# Altium schematic symbol library PowerManagement.SchLib: 18 symbols
Pins are listed as number, name and electrical type; pins without a type are passive.

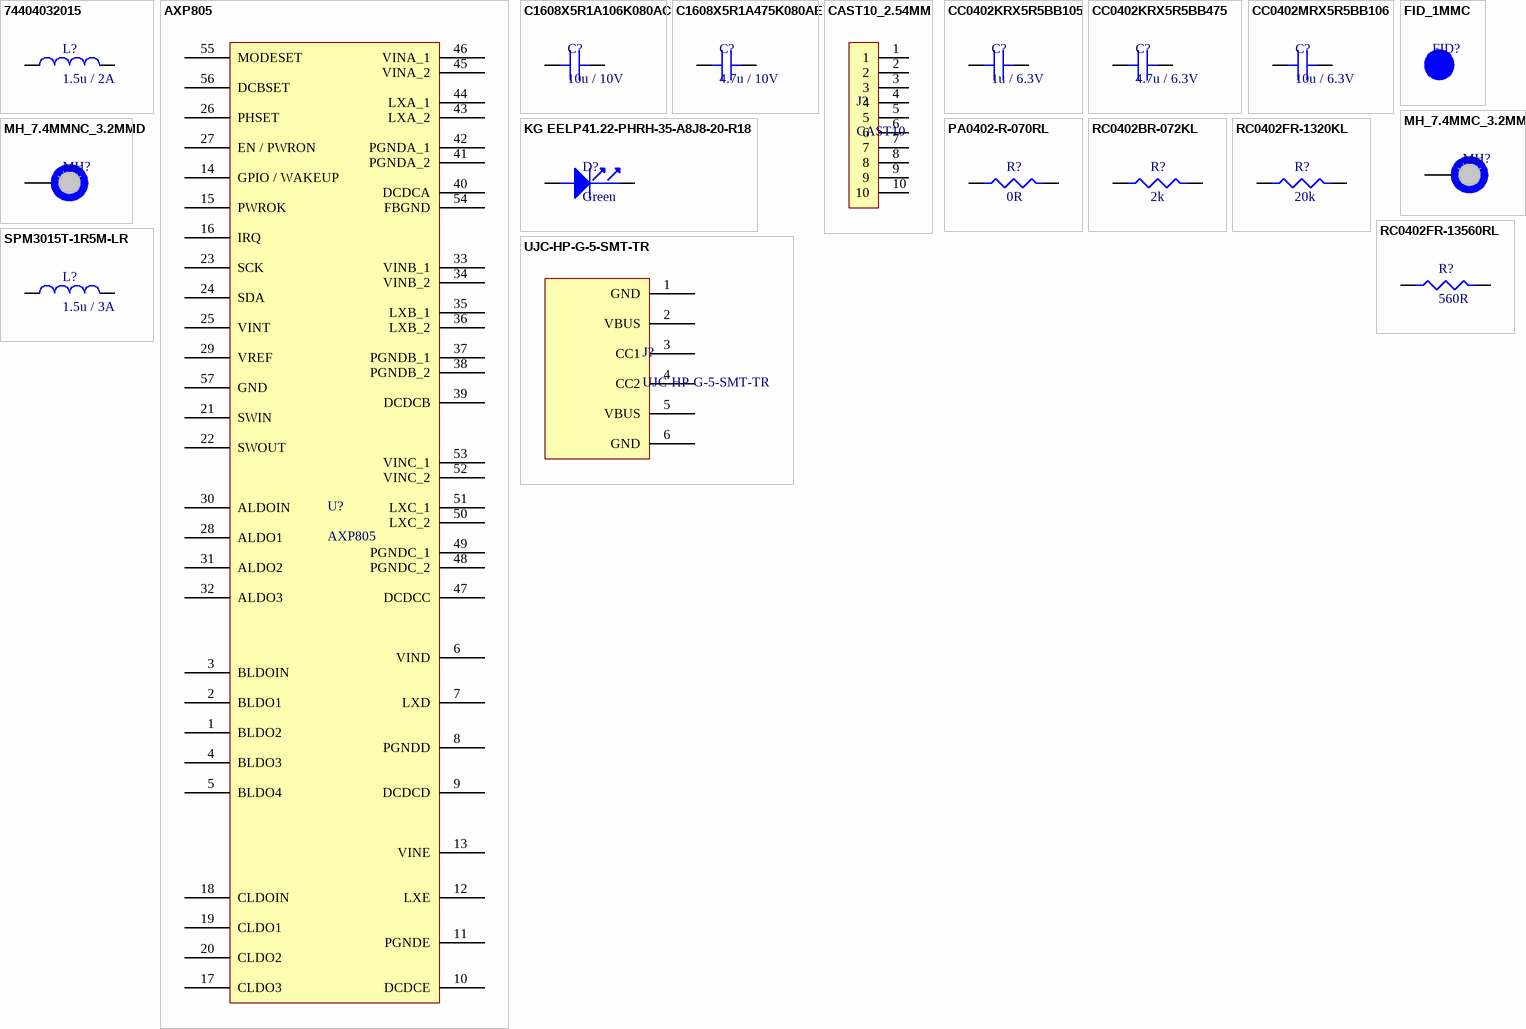
[diagram p0: symbols 74404032015 to UJC-HP-G-5-SMT-TR]

## 74404032015
designator L?, comment 1.5u / 2A
Inductor, 1.5Uh, Semishielded, 2A Rohs Compliant: Yes |Wurth Elektronik 74404032015; Manufacturer: Wurth Electronics; Supplier 1: Digikey; Manufacturer Part Number: 74404032015; RoHS: Yes; Category: Fixed Inductors; Stock 1: 53971; Pricing 1: 1=1.04, 50=0.8812, 250=0.81632, 500=0.7317 (USD); ComponentLink1URL: http://www.mouser.com/ds/2/445/74404032015-321297.pdf?src-supplier=Mouser; ComponentLink1Description: http://www.mouser.com/ds/2/445/74404032015-321297.pdf?src-supplier=Mouser; ComponentLink2URL: http://www.farnell.com/datasheets/1832868.pdf?src-supplier=Farnell; ComponentLink2Description: http://www.farnell.com/datasheets/1832868.pdf?src-supplier=Farnell; ComponentLink3URL: https://katalog.we-online.de/pbs/datasheet/74404032015.pdf?src-supplier=Digikey; ComponentLink3Description: https://katalog.we-online.de/pbs/datasheet/74404032015.pdf?src-supplier=Digikey; ComponentLink4URL: https://datasheet.octopart.com/74404032015-W%C3%BCrth-Elektronik-datasheet-27616795.pdf?src-supplier=Farnell; ComponentLink4Description: https://datasheet.octopart.com/74404032015-W%C3%BCrth-Elektronik-datasheet-27616795.pdf?src-supplier=Farnell; ComponentLink5URL: http://www.farnell.com/datasheets/1832868.pdf?src-supplier=Element14; ComponentLink5Description: http://www.farnell.com/datasheets/1832868.pdf?src-supplier=Element14; Supplier Part Number 1: 732-5492-1-ND
footprint 74404032015
pins: 1, 2

## AXP805
designator U?
PMIC for Multi-Core High-Performance System; Manufacturer: X-Powers; Max Junction Temperature (Tj): 125 °C; Max Supply Voltage: 5.5 V; Min Supply Voltage: 3 V; Number of Outputs: 9; Ambient Temperature Range High: 85 °C; Max Operating Temperature: 125 °C; Height: 800 µm; Manufacturer Part Number: AXP805; Category: Power Management (PMIC); RoHS: *; ComponentLink1Description: datasheet; ComponentLink1URL: https://linux-sunxi.org/images/b/bc/AXP805_Datasheet_V1.0_en.pdf; Supplier 1: AliExpress; Supplier Part Number 1: 1005008574347512; Stock 1: *; Pricing 1: *; ComponentLink2Description: Supplier Link 1; ComponentLink2URL: https://aliexpress.ru/item/1005008574347512.html?sku_id=12000045786397552; Supplier Note 1: For prototype
footprint QFN7x7MM
pins: 1 BLDO2, 2 BLDO1, 3 BLDOIN, 4 BLDO3, 5 BLDO4, 6 VIND, 7 LXD, 8 PGNDD, 9 DCDCD, 10 DCDCE, 11 PGNDE, 12 LXE, 13 VINE, 14 GPIO / WAKEUP, 15 PWROK, 16 IRQ, 17 CLDO3, 18 CLDOIN, 19 CLDO1, 20 CLDO2, 21 SWIN, 22 SWOUT, 23 SCK, 24 SDA, 25 VINT, 26 PHSET, 27 EN / PWRON, 28 ALDO1, 29 VREF, 30 ALDOIN, 31 ALDO2, 32 ALDO3, 33 VINB_1, 34 VINB_2, 35 LXB_1, 36 LXB_2, 37 PGNDB_1, 38 PGNDB_2, 39 DCDCB, 40 DCDCA, 41 PGNDA_2, 42 PGNDA_1, 43 LXA_2, 44 LXA_1, 45 VINA_2, 46 VINA_1, 47 DCDCC, 48 PGNDC_2, 49 PGNDC_1, 50 LXC_2, 51 LXC_1, 52 VINC_2, 53 VINC_1, 54 FBGND, 55 MODESET, 56 DCBSET, 57 GND

## C1608X5R1A106K080AC
designator C?, comment 10u / 10V
C Series 0603 10 uF 10 V ±10 % Tolerance X5R SMT Multilayer Ceramic Capacitor; Manufacturer: TDK; Manufacturer Part Number: C1608X5R1A106K080AC; Material: 4241ConductorMaterial; Capacitance: 10uF; Tolerance: 10%; Supplier 1: Digikey; RoHS: Yes; Category: Ceramic Capacitors; Stock 1: 79274; Pricing 1: 1=0.25, 10=0.145, 100=0.0918, 1000=0.06453 (USD); Mount: Surface Mount; Case/Package: 0603; Number of Pins: 2NUMBER; Case Code (Imperial): 0603; Case Code (Metric): 1608; Weight: 7.1E-05oz; Dielectric Material: 4241ConductorMaterial; Min Operating Temperature: -55°C; Max Operating Temperature: 85°C; Dielectric: X5R; Voltage Rating: 10V; Voltage Rating (DC): 10V; Packaging: Tape and Reel; Package Quantity: 1; Termination: SMD/SMT; Voltage: 10V; Series: C; Construction: Flat; Length: 1.6mm; Width: 0.031inch; Height: 0.8mm; Thickness: 0.035inch; Depth: 0.8mm; Reach SVHC Compliant: No; Lead Free: Lead Free; RoHS Compliant: Yes; ComponentLink1URL: https://datasheet.ciiva.com/22694/1796654-22694118.pdf?src-supplier=Element14; ComponentLink1Description: https://datasheet.ciiva.com/22694/1796654-22694118.pdf?src-supplier=Element14; ComponentLink2URL: https://datasheet.ciiva.com/6288/tdkmlcccaprange-6288222.pdf?src-supplier=Digikey; ComponentLink2Description: https://datasheet.ciiva.com/6288/tdkmlcccaprange-6288222.pdf?src-supplier=Digikey; ComponentLink3URL: https://datasheet.ciiva.com/6288/tdkmlcccaprange-6288220.pdf?src-supplier=Digikey; ComponentLink3Description: https://datasheet.ciiva.com/6288/tdkmlcccaprange-6288220.pdf?src-supplier=Digikey; ComponentLink4URL: https://datasheet.ciiva.com/16449/mlcc-commercial-general-en-16449573.pdf?src-supplier=Future+Electronics; ComponentLink4Description: https://datasheet.ciiva.com/16449/mlcc-commercial-general-en-16449573.pdf?src-supplier=Future+Electronics; ComponentLink5URL: https://datasheet.ciiva.com/48671/e412-c-48671301.pdf?src-supplier=Avnet; ComponentLink5Description: https://datasheet.ciiva.com/48671/e412-c-48671301.pdf?src-supplier=Avnet; ComponentLink6URL: https://datasheet.ciiva.com/23802/1796654-23802763.pdf?src-supplier=Newark; ComponentLink6Description: https://datasheet.ciiva.com/23802/1796654-23802763.pdf?src-supplier=Newark; ComponentLink7URL: https://datasheet.ciiva.com/7975/1796654-7975065.pdf?src-supplier=Element14; ComponentLink7Description: https://datasheet.ciiva.com/7975/1796654-7975065.pdf?src-supplier=Element14; ComponentLink8URL: https://datasheet.ciiva.com/28577/1744655-28577071.pdf?src-supplier=Element14; ComponentLink8Description: https://datasheet.ciiva.com/28577/1744655-28577071.pdf?src-supplier=Element14; ComponentLink9URL: https://datasheet.ciiva.com/6288/tdkmlcccaprange-6288223.pdf?src-supplier=Digikey; ComponentLink9Description: https://datasheet.ciiva.com/6288/tdkmlcccaprange-6288223.pdf?src-supplier=Digikey; ComponentLink10URL: https://datasheet.ciiva.com/28577/mlcc-commercial-general-en-28577085.pdf?src-supplier=Element14; ComponentLink10Description: https://datasheet.ciiva.com/28577/mlcc-commercial-general-en-28577085.pdf?src-supplier=Element14; Supplier Part Number 1: 445-C1608X5R1A106K080ACCT-ND
footprint C0603
pins: 1, 2

## C1608X5R1A475K080AE
designator C?, comment 4.7u / 10V
C Series 0603 4.7 uF 10 V ±10 %Tolerance X5R SMT Multilayer Ceramic Capacitor; Manufacturer: TDK; Manufacturer Part Number: C1608X5R1A475K080AE; Supplier 1: Digikey; RoHS: Yes; Category: Ceramic Capacitors; Stock 1: 16947; Pricing 1: 1=0.26, 10=0.15, 100=0.0952, 1000=0.06716 (USD); ComponentLink1URL: https://product.tdk.com/info/en/catalog/datasheets/mlcc_commercial_soft_en.pdf?src-supplier=Digikey; ComponentLink1Description: https://product.tdk.com/info/en/catalog/datasheets/mlcc_commercial_soft_en.pdf?src-supplier=Digikey; ComponentLink2URL: https://product.tdk.com/info/en/catalog/datasheets/mlcc_commercial_soft_en.pdf?ref_disty=digikey&src-supplier=Digikey; ComponentLink2Description: https://product.tdk.com/info/en/catalog/datasheets/mlcc_commercial_soft_en.pdf?ref_disty=digikey&src-supplier=Digikey; ComponentLink3URL: https://product.tdk.com/info/en/catalog/spec/mlccspec_commercial_soft_en.pdf?src-supplier=Digikey; ComponentLink3Description: https://product.tdk.com/info/en/catalog/spec/mlccspec_commercial_soft_en.pdf?src-supplier=Digikey; ComponentLink4URL: https://datasheet.octopart.com/C1608X5R1A475K080AE-TDK-datasheet-60278151.pdf?src-supplier=Future+Electronics; ComponentLink4Description: https://datasheet.octopart.com/C1608X5R1A475K080AE-TDK-datasheet-60278151.pdf?src-supplier=Future+Electronics; ComponentLink5URL: https://datasheet.octopart.com/C1608X5R1A475K080AE-TDK-datasheet-159617022.pdf?src-supplier=TME; ComponentLink5Description: https://datasheet.octopart.com/C1608X5R1A475K080AE-TDK-datasheet-159617022.pdf?src-supplier=TME; Supplier Part Number 1: 445-175224-1-ND
footprint C0603
pins: 1, 2

## CAST10_2.54MM
designator J?, comment CAST10  (no BOM)
10x Castellated Plated Through-Holes, 2.54mm Pitch.
footprint CAST10_2.54MM
pins: 1, 2, 3, 4, 5, 6, 7, 8, 9, 10

## CC0402KRX5R5BB105
designator C?, comment 1u / 6.3V
Multilayer Ceramic Capacitor, 1 uF, 100 V, ï¿½ 10%, X7R, 0402 [1005 Metric]; Manufacturer: Yageo; Manufacturer Part Number: CC0402KRX5R5BB105; Material: 4241ConductorMaterial; Capacitance: 1uF; Dielectric: X5R; Temperature Coefficient: 30ppm/°C; Supplier 1: Digikey; RoHS: Yes; Category: Ceramic Capacitors; Stock 1: 21109651; Pricing 1: 1=0.1, 10=0.054, 100=0.0318, 1000=0.02066, 2500=0.01646, 5000=0.01625 (USD); Mount: Surface Mount; Case/Package: 0402; Number of Pins: 2; Case Code (Metric): 1005; Case Code (Imperial): 0402; Dielectric Material: 4241ConductorMaterial; Min Operating Temperature: -55°C; Max Operating Temperature: 85°C; Tolerance: 10%; Voltage Rating: 6.3V; Voltage Rating (DC): 6.3V; Packaging: Tape and Reel; Termination: SMD/SMT; Series: CC; Voltage Rating (AC): 6.3V; Length: 1mm; Width: 0.5mm; Height: 0.5mm; Depth: 0.5mm; Radiation Hardening: No; Reach SVHC Compliant: No; RoHS Compliant: Yes; Lead Free: 5697LeadFree; Halogen Free: 5694HalogenFree; ComponentLink1URL: https://datasheet.ciiva.com/5789/70765-5789520.pdf?src-supplier=Farnell; ComponentLink1Description: https://datasheet.ciiva.com/5789/70765-5789520.pdf?src-supplier=Farnell; ComponentLink2URL: https://datasheet.ciiva.com/8033/70765-8033646.pdf?src-supplier=Element14; ComponentLink2Description: https://datasheet.ciiva.com/8033/70765-8033646.pdf?src-supplier=Element14; ComponentLink3URL: https://datasheet.ciiva.com/176/mlccorderingcode-176610.pdf?src-supplier=Digikey; ComponentLink3Description: https://datasheet.ciiva.com/176/mlccorderingcode-176610.pdf?src-supplier=Digikey; ComponentLink4URL: https://datasheet.ciiva.com/176/mlccorderingcode-176609.pdf?src-supplier=Digikey; ComponentLink4Description: https://datasheet.ciiva.com/176/mlccorderingcode-176609.pdf?src-supplier=Digikey; ComponentLink5URL: https://datasheet.ciiva.com/176/mlccorderingcode-176611.pdf?src-supplier=Digikey; ComponentLink5Description: https://datasheet.ciiva.com/176/mlccorderingcode-176611.pdf?src-supplier=Digikey; ComponentLink6URL: https://datasheet.ciiva.com/8033/1525783-8033644.pdf?src-supplier=Element14; ComponentLink6Description: https://datasheet.ciiva.com/8033/1525783-8033644.pdf?src-supplier=Element14; ComponentLink7URL: https://datasheet.ciiva.com/28450/1359354-28450285.pdf?src-supplier=Element14; ComponentLink7Description: https://datasheet.ciiva.com/28450/1359354-28450285.pdf?src-supplier=Element14; ComponentLink8URL: https://datasheet.ciiva.com/8033/1525783-8033643.pdf?src-supplier=Element14; ComponentLink8Description: https://datasheet.ciiva.com/8033/1525783-8033643.pdf?src-supplier=Element14; ComponentLink9URL: https://datasheet.ciiva.com/11464/upy-gphc-x5r-4v-to-50v-12-11464863.pdf?src-supplier=Avnet; ComponentLink9Description: https://datasheet.ciiva.com/11464/upy-gphc-x5r-4v-to-50v-12-11464863.pdf?src-supplier=Avnet; Supplier Part Number 1: 311-1438-1-ND; ComponentLink10Description: AliExpress; ComponentLink10URL: https://aliexpress.ru/item/1005001948033366.html
footprint C0402
pins: 1, 2

## CC0402KRX5R5BB475
designator С?, comment 4.7u / 6.3V
0402 4.7 uF 6.3 V ±10% Tolerance X5R SMT Multilayer Ceramic Capacitor; Manufacturer: Yageo; Manufacturer Part Number: CC0402KRX5R5BB475; Capacitance: 4.7uF; Temperature Coefficient: 30ppm/°C; RoHS: Yes; Category: Ceramic Capacitors; Stock 1: 371; Pricing 1: 1=0.1396, 10=0.071, 25=0.0631, 100=0.046, 250=0.0336 (USD); Mount: Surface Mount; Case/Package: 0402; Case Code (Imperial): 0402; Case Code (Metric): 1005; Material: 4241ConductorMaterial; Min Operating Temperature: -55°C; Max Operating Temperature: 85°C; Voltage Rating (DC): 6.3V; Dielectric: X5R; Tolerance: 10%; Series: CC; Packaging: Cut Tape; Voltage Rating: 6.3V; Height: 550um; Lead Free: Lead Free; RoHS Compliant: Yes; Halogen Free: 5694HalogenFree; ComponentLink1URL: https://datasheet.octopart.com/CC0402KRX5R5BB475-Yageo-datasheet-137875056.pdf?src-supplier=Future+Electronics; ComponentLink1Description: https://datasheet.octopart.com/CC0402KRX5R5BB475-Yageo-datasheet-137875056.pdf?src-supplier=Future+Electronics; ComponentLink2URL: http://www.yageo.com/documents/recent/UPY-GPHC_X5R_4V-to-50V_25.pdf?src-supplier=Digikey; ComponentLink2Description: http://www.yageo.com/documents/recent/UPY-GPHC_X5R_4V-to-50V_25.pdf?src-supplier=Digikey; ComponentLink3URL: https://www.yageo.com/upload/media/product/productsearch/datasheet/mlcc/UPY-GPHC_X5R_4V-to-50V_26.pdf?src-supplier=Digikey; ComponentLink3Description: https://www.yageo.com/upload/media/product/productsearch/datasheet/mlcc/UPY-GPHC_X5R_4V-to-50V_26.pdf?src-supplier=Digikey; ComponentLink4URL: https://datasheet.octopart.com/CC0402KRX5R5BB475-Yageo-datasheet-140260304.pdf?src-supplier=Newark; ComponentLink4Description: https://datasheet.octopart.com/CC0402KRX5R5BB475-Yageo-datasheet-140260304.pdf?src-supplier=Newark; ComponentLink5Description: AliExpress; ComponentLink5URL: https://aliexpress.ru/item/1005001948033366.html; Supplier 1: Digikey; Supplier Part Number 1: 311-3476-1-ND
footprint C0402
pins: 1, 2

## CC0402MRX5R5BB106
designator C?, comment 10u / 6.3V
0402 10 uF 6.3 V ±20 % Tolerance X5R SMT Multilayer Ceramic Capacitor; Manufacturer: Yageo; Manufacturer Part Number: CC0402MRX5R5BB106; Capacitance: 10uF; Tolerance: 20%; RoHS: Yes; Category: Ceramic Capacitors; Stock 1: 5664; Pricing 1: 1=0.2, 10=0.115, 50=0.115, 100=0.073, 1000=0.051, 10000=0.034 (USD); Mount: Surface Mount; Case/Package: 0402; Case Code (Metric): 1005; Case Code (Imperial): 0402; Weight: 2.3E-05oz; Min Operating Temperature: -55°C; Max Operating Temperature: 85°C; Packaging: Tape and Reel; Dielectric: X5R; Voltage Rating: 6.3V; Termination: SMD/SMT; Voltage Rating (DC): 6.3V; Package Quantity: 10000; Series: CC; Lead Free: Lead Free; Halogen Free: Halogen Free; RoHS Compliant: Yes; ComponentLink1URL: http://www.yageo.com/documents/recent/UPY-GPHC_X5R_4V-to-50V_25.pdf?src-supplier=Digikey; ComponentLink1Description: http://www.yageo.com/documents/recent/UPY-GPHC_X5R_4V-to-50V_25.pdf?src-supplier=Digikey; ComponentLink2URL: https://datasheet.octopart.com/CC0402MRX5R5BB106-Yageo-datasheet-140260304.pdf?src-supplier=Newark; ComponentLink2Description: https://datasheet.octopart.com/CC0402MRX5R5BB106-Yageo-datasheet-140260304.pdf?src-supplier=Newark; ComponentLink3URL: https://datasheet.octopart.com/CC0402MRX5R5BB106-Yageo-datasheet-137875056.pdf?src-supplier=Future+Electronics; ComponentLink3Description: https://datasheet.octopart.com/CC0402MRX5R5BB106-Yageo-datasheet-137875056.pdf?src-supplier=Future+Electronics; ComponentLink4URL: http://www.yageo.com/documents/recent/UPY-GPHC_X5R_4V-to-50V_25.pdf?src-supplier=Mouser; ComponentLink4Description: http://www.yageo.com/documents/recent/UPY-GPHC_X5R_4V-to-50V_25.pdf?src-supplier=Mouser; ComponentLink5URL: https://datasheet.octopart.com/CC0402MRX5R5BB106-Yageo-datasheet-181967537.pdf?src-supplier=Element14; ComponentLink5Description: https://datasheet.octopart.com/CC0402MRX5R5BB106-Yageo-datasheet-181967537.pdf?src-supplier=Element14; ComponentLink6URL: http://www.yageo.com/documents/recent/UPY-GPHC_X5R_4V-to-50V_25.pdf?src-supplier=TTI; ComponentLink6Description: http://www.yageo.com/documents/recent/UPY-GPHC_X5R_4V-to-50V_25.pdf?src-supplier=TTI; ComponentLink7URL: http://www.yageo.com/documents/recent/UPY-GPHC_X5R_4V-to-50V_25.pdf?src-supplier=Rutronik; ComponentLink7Description: http://www.yageo.com/documents/recent/UPY-GPHC_X5R_4V-to-50V_25.pdf?src-supplier=Rutronik; ComponentLink8Description: AliExpress; ComponentLink8URL: https://aliexpress.ru/item/1005001948033366.html; Supplier 1: Digikey; Supplier Part Number 1: 311-1729-1-ND
footprint C0402
pins: 1, 2

## FID_1MMC
designator FID?  (value not drawn)  (no BOM)
Fiducail 40mil Diameter, 120mil mask
footprint FID_40X120D

## KG EELP41.22-PHRH-35-A8J8-20-R18
designator D?, comment Green
Led Green Diffused 0603 SMD; Manufacturer: Osram Opto; Manufacturer Part Number: KG EELP41.22-PHRH-35-A8J8-20-R18; Supplier 1: Mouser; RoHS: No; Category: Optoelectronics; Stock 1: 7148; Pricing 1: 1=0.25, 10=0.138, 50=0.138, 100=0.064, 1000=0.046, 10000=0.035 (USD); Supplier Part Number 1: 720-P4122PHRH35A8J82
footprint LED_0603
pins: 1 Cathode, 2 Anode

## MH_7.4MMC_3.2MMD
designator MH?  (value not drawn)  (no BOM)
Mounting Hole 7.4mm Diameter, 3.2mm Drill
footprint MH_7.4MMD_3.2MMD
pins: 1

## MH_7.4MMNC_3.2MMD
designator MH?  (value not drawn)  (no BOM)
Mounting Hole 7.4mm Diameter (Non Copper), 3.2mm Drill
footprint MH_7.4MMD_3.2MMD_NON_COPPER_NPTH
pins: 1

## PA0402-R-070RL
designator R?, comment 0R
Zero Ohm Resistor, Jumper, 0402 [1005 Metric], Metal Film, 63 mW, 11 A, Surface Mount; Manufacturer: Yageo; Manufacturer Part Number: PA0402-R-070RL; Supplier 1: Digikey; RoHS: Yes; Category: Chip SMD Resistors; Stock 1: 19936; Pricing 1: 1=0.9, 10=0.582, 25=0.4972, 50=0.4436, 100=0.3982, 250=0.3484, 500=0.31718, 1000=0.29067, 5000=0.24347 (USD); Height: 350um; ComponentLink1URL: http://www.yageo.com/NewPortal/_en/search/productDocs.jsp?YageoPartNumber=PA0402-R-070RL&src-supplier=Digikey; ComponentLink1Description: http://www.yageo.com/NewPortal/_en/search/productDocs.jsp?YageoPartNumber=PA0402-R-070RL&src-supplier=Digikey; ComponentLink2URL: https://datasheet.octopart.com/PA0402-R-070RL-Yageo-datasheet-137700557.pdf?src-supplier=Future+Electronics; ComponentLink2Description: https://datasheet.octopart.com/PA0402-R-070RL-Yageo-datasheet-137700557.pdf?src-supplier=Future+Electronics; Supplier Part Number 1: YAG5756CT-ND
footprint R0402
pins: 1, 2

## RC0402BR-072KL
designator R?, comment 2k
General Purpose Chip Resistor Thick Film 0402 2kOhm 0.1% Paper T/R; Manufacturer: Yageo; Manufacturer Part Number: RC0402BR-072KL; Supplier 1: Digikey; RoHS: Yes; Category: Chip SMD Resistors; Stock 1: 18357; Pricing 1: 1=0.23, 10=0.127, 100=0.0898, 1000=0.06936, 2500=0.05763, 5000=0.04998 (USD); RoHS Compliant: Yes; Supplier Part Number 1: 13-RC0402BR-072KLCT-ND
footprint R0402
pins: 1, 2

## RC0402FR-1320KL
designator R?, comment 20k
SMD Chip Resistor, 20 kOhm, ï¿½ 1%, 63 mW, 0402 [1005 Metric], Thick Film, General Purpose; Manufacturer: Yageo; Manufacturer Part Number: RC0402FR-1320KL; Resistance: 20kR; Temperature Coefficient: 100ppm/°C; Power Rating: 62.5mW; Voltage Rating: 50V; Supplier 1: Digikey; RoHS: Yes; Category: Chip SMD Resistors; Stock 1: 164219; Pricing 1: 1=0.1, 10=0.008, 100=0.0051, 1000=0.00408, 2500=0.00357, 5000=0.00306 (USD); Case/Package: 0402; Contact Plating: Tin,Matte; Case Code (Imperial): 0402; Case Code (Metric): 1005; Min Operating Temperature: -55°C; Max Operating Temperature: 155°C; Tolerance: 1%; Packaging: Tape and Reel; Termination: SMD/SMT; Series: RC; Length: 1mm; Width: 0.5mm; Height: 0.35mm; RoHS Compliant: Yes; ComponentLink1URL: http://www.mouser.com/ds/2/447/PYu-RC0402_51_RoHS_L_6_r-8721.pdf?src-supplier=Mouser; ComponentLink1Description: http://www.mouser.com/ds/2/447/PYu-RC0402_51_RoHS_L_6_r-8721.pdf?src-supplier=Mouser; ComponentLink2URL: http://www.yageo.com/documents/recent/PYu-RC0402_51_RoHS_L_6.pdf?src-supplier=Avnet; ComponentLink2Description: http://www.yageo.com/documents/recent/PYu-RC0402_51_RoHS_L_6.pdf?src-supplier=Avnet; Supplier Part Number 1: 13-RC0402FR-1320KLCT-ND; ComponentLink3Description: AliExpress; ComponentLink3URL: https://aliexpress.ru/item/32864744837.html
footprint R0402
pins: 1, 2

## RC0402FR-13560RL
designator R?, comment 560R
SMD Chip Resistor, 560 Ohm, ± 1%, 63 mW, 0402 [1005 Metric], Thick Film, General Purpose; Manufacturer: Yageo; Manufacturer Part Number: RC0402FR-13560RL; Supplier 1: Digikey; RoHS: Yes; Category: Chip SMD Resistors; Stock 1: 81328; Pricing 1: 1=0.1, 10=0.007, 100=0.0051, 1000=0.00408, 2500=0.00306, 10000=0.00286 (USD); Lead Free: 5697LeadFree; ComponentLink1URL: https://datasheet.ciiva.com/8885/pyu-rc0402-51-rohs-l-6-8885291.pdf?src-supplier=Avnet; ComponentLink1Description: https://datasheet.ciiva.com/8885/pyu-rc0402-51-rohs-l-6-8885291.pdf?src-supplier=Avnet; Supplier Part Number 1: 13-RC0402FR-13560RLCT-ND
footprint R0402
pins: 1, 2

## SPM3015T-1R5M-LR
designator L?, comment 1.5u / 3A
Inductor Power Shielded Wirewound 1.5uH 20% 100KHz Metal 3.3A 0.0624Ohm DCR T/R; Manufacturer: TDK; Manufacturer Part Number: SPM3015T-1R5M-LR; Saturation Current: 4.5A; DC Resistance (DCR): 62.4mR; Supplier 1: Digikey; RoHS: Yes; Category: Fixed Inductors; Pricing 1: 1=1, 10=0.82, 100=0.674, 1000=0.55442 (USD); Mount: Surface Mount; Case/Package: Nonstandard; Core Material: Metal; Min Operating Temperature: -40°C; Max Operating Temperature: 125°C; Packaging: Cut Tape; Inductance: 1.5uH; Shielding: Shielded; Test Frequency: 100kHz; Tolerance: 20%; Series: SPM-LR; Current Rating: 3.3A; RMS Current (Irms): 3.3A; Inductance Tolerance: 20%; Length: 0.126inch; Width: 0.118inch; Height - Seated (Max): 0.047inch; RoHS Compliant: Yes; Reach SVHC Compliant: No; ComponentLink1URL: https://product.tdk.com/info/en/catalog/datasheets/inductor_commercial_power_spm3015-lr_en.pdf?src-supplier=Digikey; ComponentLink1Description: https://product.tdk.com/info/en/catalog/datasheets/inductor_commercial_power_spm3015-lr_en.pdf?src-supplier=Digikey; ComponentLink2URL: http://www.farnell.com/datasheets/2053094.pdf?src-supplier=Element14; ComponentLink2Description: http://www.farnell.com/datasheets/2053094.pdf?src-supplier=Element14; Supplier Part Number 1: 445-174448-1-ND
footprint SPM3015
pins: 1, 2

## UJC-HP-G-5-SMT-TR
designator J?
Conn USB Type C RCP 6 POS 1.02mm/1.23mm Solder RA SMD 6 Terminal 1 Port T/R; Manufacturer: CUI Devices; Supplier 1: Digikey; Manufacturer Part Number: UJC-HP-G-5-SMT-TR; RoHS: No; Category: USB Connectors; Stock 1: 3220; Pricing 1: 1=0.6, 10=0.511, 25=0.4792, 50=0.4564, 100=0.4345, 250=0.40724, 500=0.3878 (USD); ComponentLink1URL: https://datasheet.octopart.com/UJC-HP-G-5-SMT-TR-Same-Sky-datasheet-184321161.pdf?src-supplier=Electro+Sonic; ComponentLink1Description: https://datasheet.octopart.com/UJC-HP-G-5-SMT-TR-Same-Sky-datasheet-184321161.pdf?src-supplier=Electro+Sonic; Supplier Part Number 1: 2223-UJC-HP-G-5-SMT-TRCT-ND
footprint UJC-HP-G-5-SMT-TR
pins: 1 GND, 2 VBUS, 3 CC1, 4 CC2, 5 VBUS, 6 GND